# EAGLE library part RT6158H (library Eagle_CAD_parts)
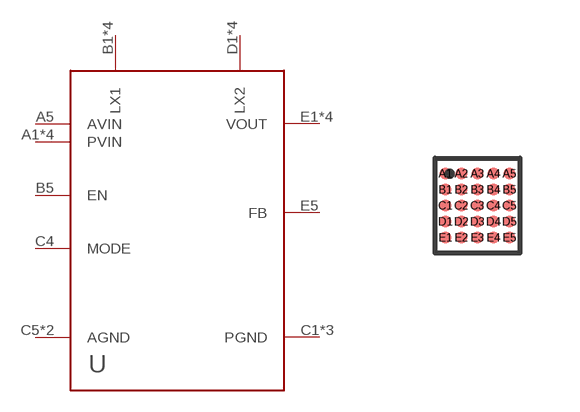
[diagram p61: symbol with the pads of 25-WLCSP-2.07X2.33; footprint 25-WLCSP-2.07X2.33]

Designator prefix U

## RT6158H_RT6158H  [25-WLCSP-2.07X2.33]
A1  PVIN
A2  PVIN
A3  PVIN
A4  PVIN
A5  AVIN
B1  LX1
B2  LX1
B3  LX1
B4  LX1
B5  EN
C1  PGND
C2  PGND
C3  PGND
C4  MODE
C5  AGND
D1  LX2
D2  LX2
D3  LX2
D4  LX2
D5  AGND
E1  VOUT
E2  VOUT
E3  VOUT
E4  VOUT
E5  FB

## Footprint 25-WLCSP-2.07X2.33 (pad centres in mm)
smd 0.3 x 0.3: A1 -0.8,0.8; A2 -0.4,0.8; A3 0,0.8; A4 0.4,0.8; A5 0.8,0.8; B1 -0.8,0.4; B2 -0.4,0.4; B3 0,0.4; B4 0.4,0.4; B5 0.8,0.4; C1 -0.8,0; C2 -0.4,0; C3 0,0; C4 0.4,0; C5 0.8,0; D1 -0.8,-0.4; D2 -0.4,-0.4; D3 0,-0.4; D4 0.4,-0.4; D5 0.8,-0.4; E1 -0.8,-0.8; E2 -0.4,-0.8; E3 0,-0.8; E4 0.4,-0.8; E5 0.8,-0.8